# EAGLE library part SMA-B500 (library SparkFun-LED1)
American Opto Plus LED Corp. - SMA-B520LB 5 segment SMD LED Bar Graph Display, Bright Blue SparkFun Products: MyoWare LED Shield <https://www.sparkfun.com/products/13688>
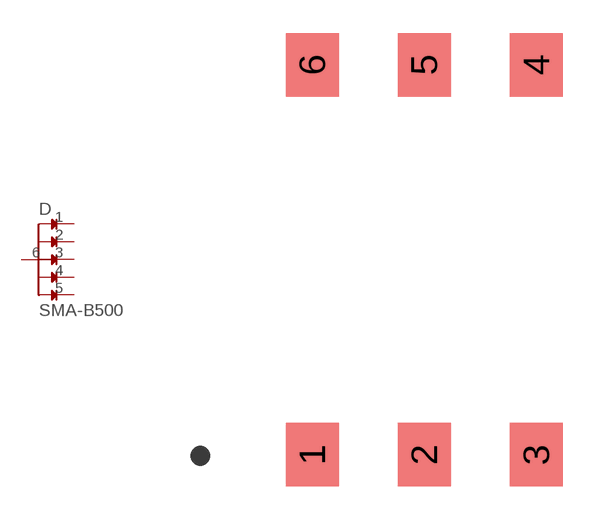
[diagram p7: symbol with the pads of LED_BAR_SMD; footprint LED_BAR_SMD]

Designator prefix D

## SMA-B500 (PROD_ID: DIO-13127)  [LED_BAR_SMD]
1  1
2  2
3  3
4  4
5  5
6  6

## Footprint LED_BAR_SMD (pad centres in mm)
SMA-B520LB LED Bargraph - 5 segment Specifications: Pin count:6 Datasheet referenced for footprint Example device(s): [EXAMPLE DEVICE 1] [EXAMPLE DEVICE 2]
smd 2.4 x 2.88: 1 -5.08,-8.84; 2 0,-8.84; 3 5.08,-8.84; 4 5.08,8.84; 5 0,8.84; 6 -5.08,8.84